# Altium schematic symbol library MCU_Dialog.SchLib: 2 symbols
Pins are listed as number, name and electrical type; pins without a type are passive.

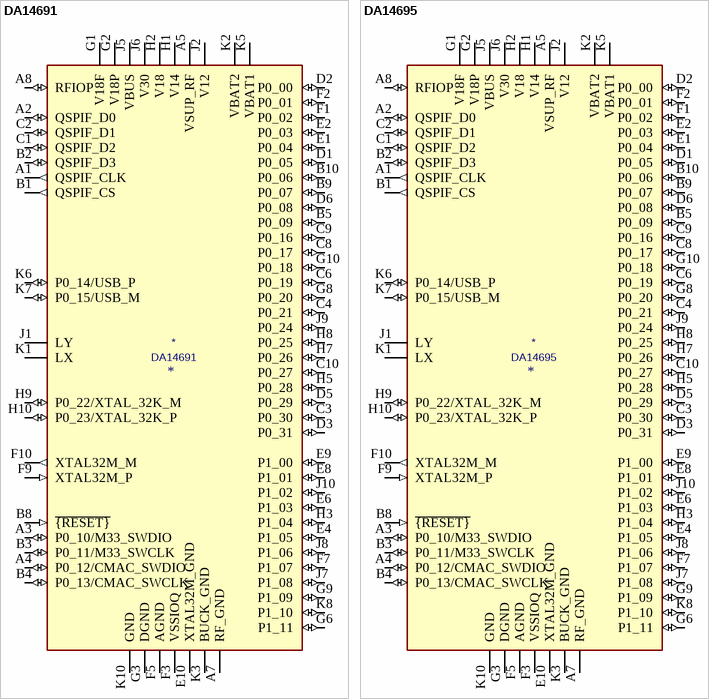
[diagram p0: symbols DA14691 to DA14695]

## DA14691
designator *  value DA14691
ki_keywords: BLE MCU; ki_description: Multi-core BLE 5.1 SoC series, 96-MHz/32-bit ARM Cortex-M33, 128 kB ROM, 384 kB SRAM, 4 kB OTP Memory, 16 kB cache SRAM, VFBGA-86; ki_fp_filters: VFBGA*6x6mm*Layout10x10*P0.55mm*; Footprint: Package_BGA:VFBGA-86_6x6mm_Layout10x10_P0.55mm_Ball0.25mm_Pad0.2mm; Supplier: https://www.dialog-semiconductor.com/sites/default/files/da1469x_datasheet_3v1.pdf
footprint VFBGA-86_6x6mm_Layout10x10_P0.55mm_Ball0.25mm_Pad0.2mm
pins: A1 QSPIF_CLK (out), A2 QSPIF_D0 (io), A3 P0_10/M33_SWDIO (io), A4 P0_12/CMAC_SWDIO (io), A5 VSUP_RF (power), A6 RF_GND hidden, A7 RF_GND (power), A8 RFIOP (io), A9 RF_GND hidden, A10 RF_GND hidden, B1 QSPIF_CS (out), B2 QSPIF_D3 (io), B3 P0_11/M33_SWCLK (io), B4 P0_13/CMAC_SWCLK (io), B5 P0_09 (io), B7 RF_GND hidden, B8 ~{{RESET}} (in), B9 P0_07 (io), B10 P0_06 (io), C1 QSPIF_D2 (io), C2 QSPIF_D1 (io), C3 P0_30 (io), C4 P0_21 (io), C6 P0_19 (io), C8 P0_17 (io), C9 P0_16 (io), C10 P0_27 (io), D1 P0_05 (io), D2 P0_00 (io), D3 P0_31 (io), D5 P0_29 (io), D6 P0_08 (io), D9 RF_GND hidden, D10 RF_GND hidden, E1 P0_04 (io), E2 P0_03 (io), E4 P1_05 (io), E6 P1_03 (io), E8 P1_01 (io), E9 P1_00 (io), E10 XTAL32M_GND, F1 P0_02 (io), F2 P0_01 (io), F3 VSSIOQ (power), F4 DGND hidden, F5 AGND (power), F7 P1_07 (io), F9 XTAL32M_P (in), F10 XTAL32M_M (out), G1 V18F (power), G2 V18P (power), G3 DGND (power), G4 DGND hidden, G5 AGND hidden, G6 P1_11 (io), G8 P0_20 (io), G9 P1_09 (io), G10 P0_18 (io), H1 V14 (power), H2 V18 (power), H3 P1_04 (io), H5 P0_28 (io), H7 P0_26 (io), H8 P0_25 (io), H9 P0_22/XTAL_32K_M (io), H10 P0_23/XTAL_32K_P (io), J1 LY, J2 V12 (power), J3 GND hidden, J4 NC (in) hidden, J5 VBUS (power), J6 V30 (power), J7 P1_08 (io), J8 P1_06 (io), J9 P0_24 (io), J10 P1_02 (io), K1 LX, K2 VBAT2 (power), K3 BUCK_GND (power), K4 NC (in) hidden, K5 VBAT1 (power), K6 P0_14/USB_P (io), K7 P0_15/USB_M (io), K8 P1_10 (io), K9 GND hidden, K10 GND (power)

## DA14695
designator *  value DA14695
ki_keywords: BLE MCU; ki_description: Multi-core BLE 5.1 Soc series, 96-MHz/32-bit ARM Cortex-M33, 128 kB ROM, 512 kB SRAM, 4 kB OTP Memory, 16 kB cache SRAM, VFBGA-86; ki_fp_filters: VFBGA*6x6mm*Layout10x10*P0.55mm*; Footprint: Package_BGA:VFBGA-86_6x6mm_Layout10x10_P0.55mm_Ball0.25mm_Pad0.2mm; Supplier: https://www.dialog-semiconductor.com/sites/default/files/da1469x_datasheet_3v1.pdf
footprint VFBGA-86_6x6mm_Layout10x10_P0.55mm_Ball0.25mm_Pad0.2mm
pins: A1 QSPIF_CLK (out), A2 QSPIF_D0 (io), A3 P0_10/M33_SWDIO (io), A4 P0_12/CMAC_SWDIO (io), A5 VSUP_RF (power), A6 RF_GND hidden, A7 RF_GND (power), A8 RFIOP (io), A9 RF_GND hidden, A10 RF_GND hidden, B1 QSPIF_CS (out), B2 QSPIF_D3 (io), B3 P0_11/M33_SWCLK (io), B4 P0_13/CMAC_SWCLK (io), B5 P0_09 (io), B7 RF_GND hidden, B8 ~{{RESET}} (in), B9 P0_07 (io), B10 P0_06 (io), C1 QSPIF_D2 (io), C2 QSPIF_D1 (io), C3 P0_30 (io), C4 P0_21 (io), C6 P0_19 (io), C8 P0_17 (io), C9 P0_16 (io), C10 P0_27 (io), D1 P0_05 (io), D2 P0_00 (io), D3 P0_31 (io), D5 P0_29 (io), D6 P0_08 (io), D9 RF_GND hidden, D10 RF_GND hidden, E1 P0_04 (io), E2 P0_03 (io), E4 P1_05 (io), E6 P1_03 (io), E8 P1_01 (io), E9 P1_00 (io), E10 XTAL32M_GND, F1 P0_02 (io), F2 P0_01 (io), F3 VSSIOQ (power), F4 DGND hidden, F5 AGND (power), F7 P1_07 (io), F9 XTAL32M_P (in), F10 XTAL32M_M (out), G1 V18F (power), G2 V18P (power), G3 DGND (power), G4 DGND hidden, G5 AGND hidden, G6 P1_11 (io), G8 P0_20 (io), G9 P1_09 (io), G10 P0_18 (io), H1 V14 (power), H2 V18 (power), H3 P1_04 (io), H5 P0_28 (io), H7 P0_26 (io), H8 P0_25 (io), H9 P0_22/XTAL_32K_M (io), H10 P0_23/XTAL_32K_P (io), J1 LY, J2 V12 (power), J3 GND hidden, J4 NC (in) hidden, J5 VBUS (power), J6 V30 (power), J7 P1_08 (io), J8 P1_06 (io), J9 P0_24 (io), J10 P1_02 (io), K1 LX, K2 VBAT2 (power), K3 BUCK_GND (power), K4 NC (in) hidden, K5 VBAT1 (power), K6 P0_14/USB_P (io), K7 P0_15/USB_M (io), K8 P1_10 (io), K9 GND hidden, K10 GND (power)